# EAGLE library part NMJ6HFD3 (library con_neutrik_ag__Jack6,35)
1/4" stereo jack, switched, with full threaded nose and offset PCB pins Mounting nut included
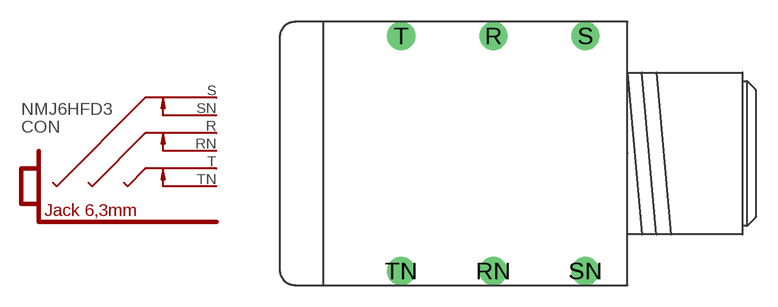
[diagram p10: symbol with the pads of NMJ6HFD3; footprint NMJ6HFD3]

Designator prefix CON

## NMJ6HFD3  [NMJ6HFD3]
R  R  pas
RN  RN  pas
S  S  pas
SN  SN  pas
T  T  pas
TN  TN  pas

## Footprint NMJ6HFD3 (pad centres in mm)
drill 1.3 round: R -9.25,8.115; RN -9.25,-8.115; S -2.9,8.115; SN -2.9,-8.115; T -15.6,8.115; TN -15.6,-8.115